# EAGLE library part MOLEX_06_0430450609 (library stepOSP)
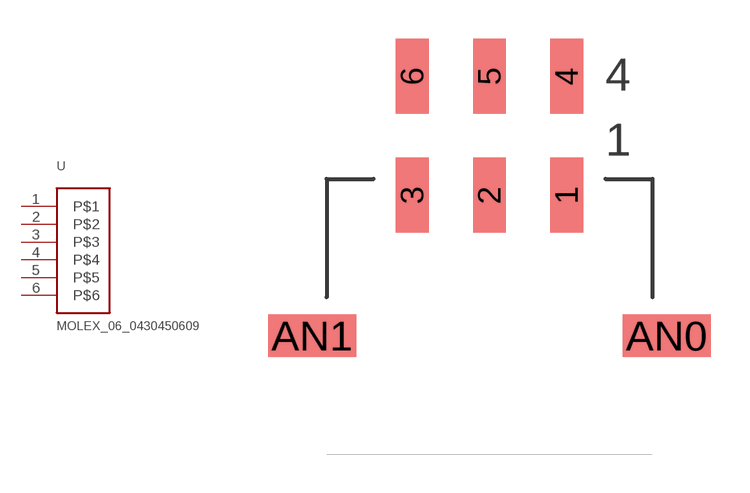
[diagram p55: symbol with the pads of MOLEX_06_0430450609; footprint MOLEX_06_0430450609]

Designator prefix -

## MOLEX_06_0430450609  [MOLEX_06_0430450609]
1  P$1
2  P$2
3  P$3
4  P$4
5  P$5
6  P$6

## Footprint MOLEX_06_0430450609 (pad centres in mm)
smd 1.27 x 2.92: 1 3,5.47; 2 0,5.47; 3 -3,5.47; 4 3,10.1; 5 0,10.1; 6 -3,10.1
smd 3.43 x 1.65: AN0 6.885,0; AN1 -6.885,0